# EAGLE library part MUX_FUSB302B11MPX (library !GPLIB_ACTIVE)
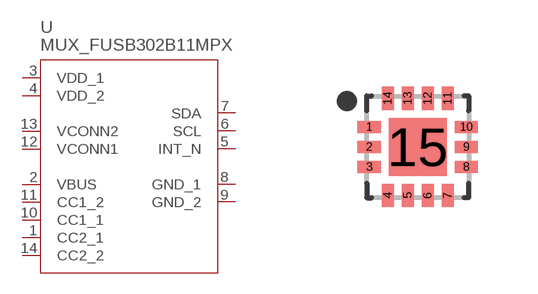
[diagram p43: symbol with the pads of FUSB302B11MPX; footprint FUSB302B11MPX]

Designator prefix U

## MUX_FUSB302B11MPX  [FUSB302B11MPX]
1  CC2_1
2  VBUS
3  VDD_1
4  VDD_2
5  INT_N
6  SCL
7  SDA
8  GND_1
9  GND_2
10  CC1_1
11  CC1_2
12  VCONN1
13  VCONN2
14  CC2_2

## Footprint FUSB302B11MPX (pad centres in mm)
14-QFN, 0.50 mm pitch, 2.50 X 2.50 X 0.75 mm body, 1.45 X 1.45 mm thermal pad 14-pin QFN package with 0.50 mm pitch with body size 2.50 X 2.50 X 0.75 mm and thermal pad size 1.45 X 1.45 mm
smd 0.58 x 0.3: 1 -1.215,0.5; 2 -1.215,0; 3 -1.215,-0.5; 8 1.215,-0.5; 9 1.215,0; 10 1.215,0.5
smd 0.3 x 0.58: 4 -0.75,-1.215; 5 -0.25,-1.215; 6 0.25,-1.215; 7 0.75,-1.215; 11 0.75,1.215; 12 0.25,1.215; 13 -0.25,1.215; 14 -0.75,1.215
smd 1.45 x 1.45: 15 0,0